# Altium schematic symbol library TS4871.SchLib: 1 symbol
Pins are listed as number, name and electrical type; pins without a type are passive.

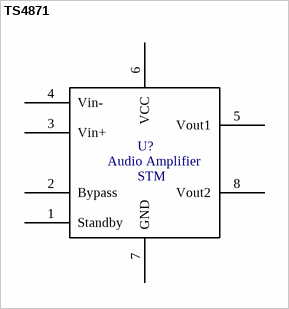
[diagram p0: symbol TS4871]

## TS4871
designator U?, comment STM
Audio Amplifier
footprint SO8_M (SOIC, 8-Leads, Body 4.9x3.9mm, Pitch 1.27mm, IPC Low Density)
pins: 1 Standby, 2 Bypass, 3 Vin+, 4 Vin-, 5 Vout1, 6 VCC, 7 GND, 8 Vout2